# EAGLE library part TXB0108 (library 1_spektrak)
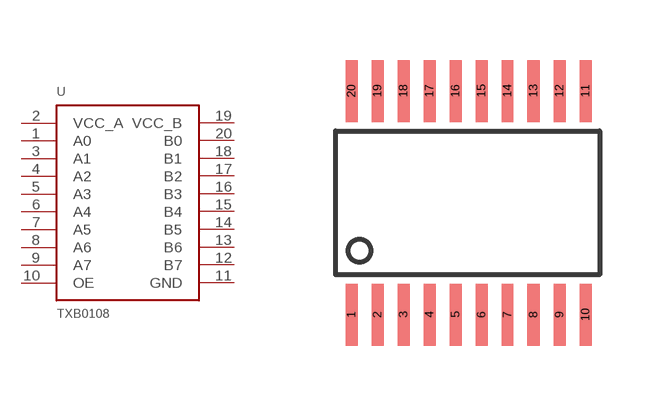
[diagram p19: symbol with the pads of TSSOP20_TRANSLATOR; footprint TSSOP20_TRANSLATOR]

Designator prefix -

## TXB0108  [TSSOP20_TRANSLATOR]
1  A0
2  VCC_A  pwr
3  A1
4  A2
5  A3
6  A4
7  A5
8  A6
9  A7
10  OE  in
11  GND  pwr
12  B7
13  B6
14  B5
15  B4
16  B3
17  B2
18  B1
19  VCC_B  pwr
20  B0

## Footprint TSSOP20_TRANSLATOR (pad centres in mm)
smd 0.3 x 1.55: 1 0,0; 2 0.65,0; 3 1.3,0; 4 1.95,0; 5 2.6,0; 6 3.25,0; 7 3.9,0; 8 4.55,0; 9 5.2,0; 10 5.85,0; 11 5.85,5.6; 12 5.2,5.6; 13 4.55,5.6; 14 3.9,5.6; 15 3.25,5.6; 16 2.6,5.6; 17 1.95,5.6; 18 1.3,5.6; 19 0.65,5.6; 20 0,5.6